# Altium schematic symbol library NPS3102BGBJ.SchLib: 1 symbol
Pins are listed as number, name and electrical type; pins without a type are passive.

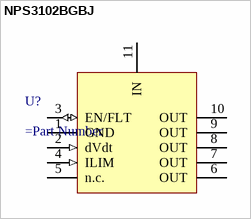
[diagram p0: symbol NPS3102BGBJ]

## NPS3102BGBJ
designator U?
=Description
pins: 1 GND (power), 2 dVdt (in), 3 EN/FLT (io), 4 ILIM (in), 5 n.c., 6 OUT (power), 7 OUT (power), 8 OUT (power), 9 OUT (power), 10 OUT (power), 11 IN (power)